# Altium footprint library IP5389_AABC_DEMO_V1.2.PcbLib: 26 footprints (part 1 of 2)
Each footprint in its own frame and in the unit in brackets; x right, y up, seen from the top. Pads: shape width x height; smd on the part's side, far side on the other; paste and mask are expansions set on the pad; w line width, h text height; cw(c..) or ccw(c..) is an arc to the next point about the centre after c.
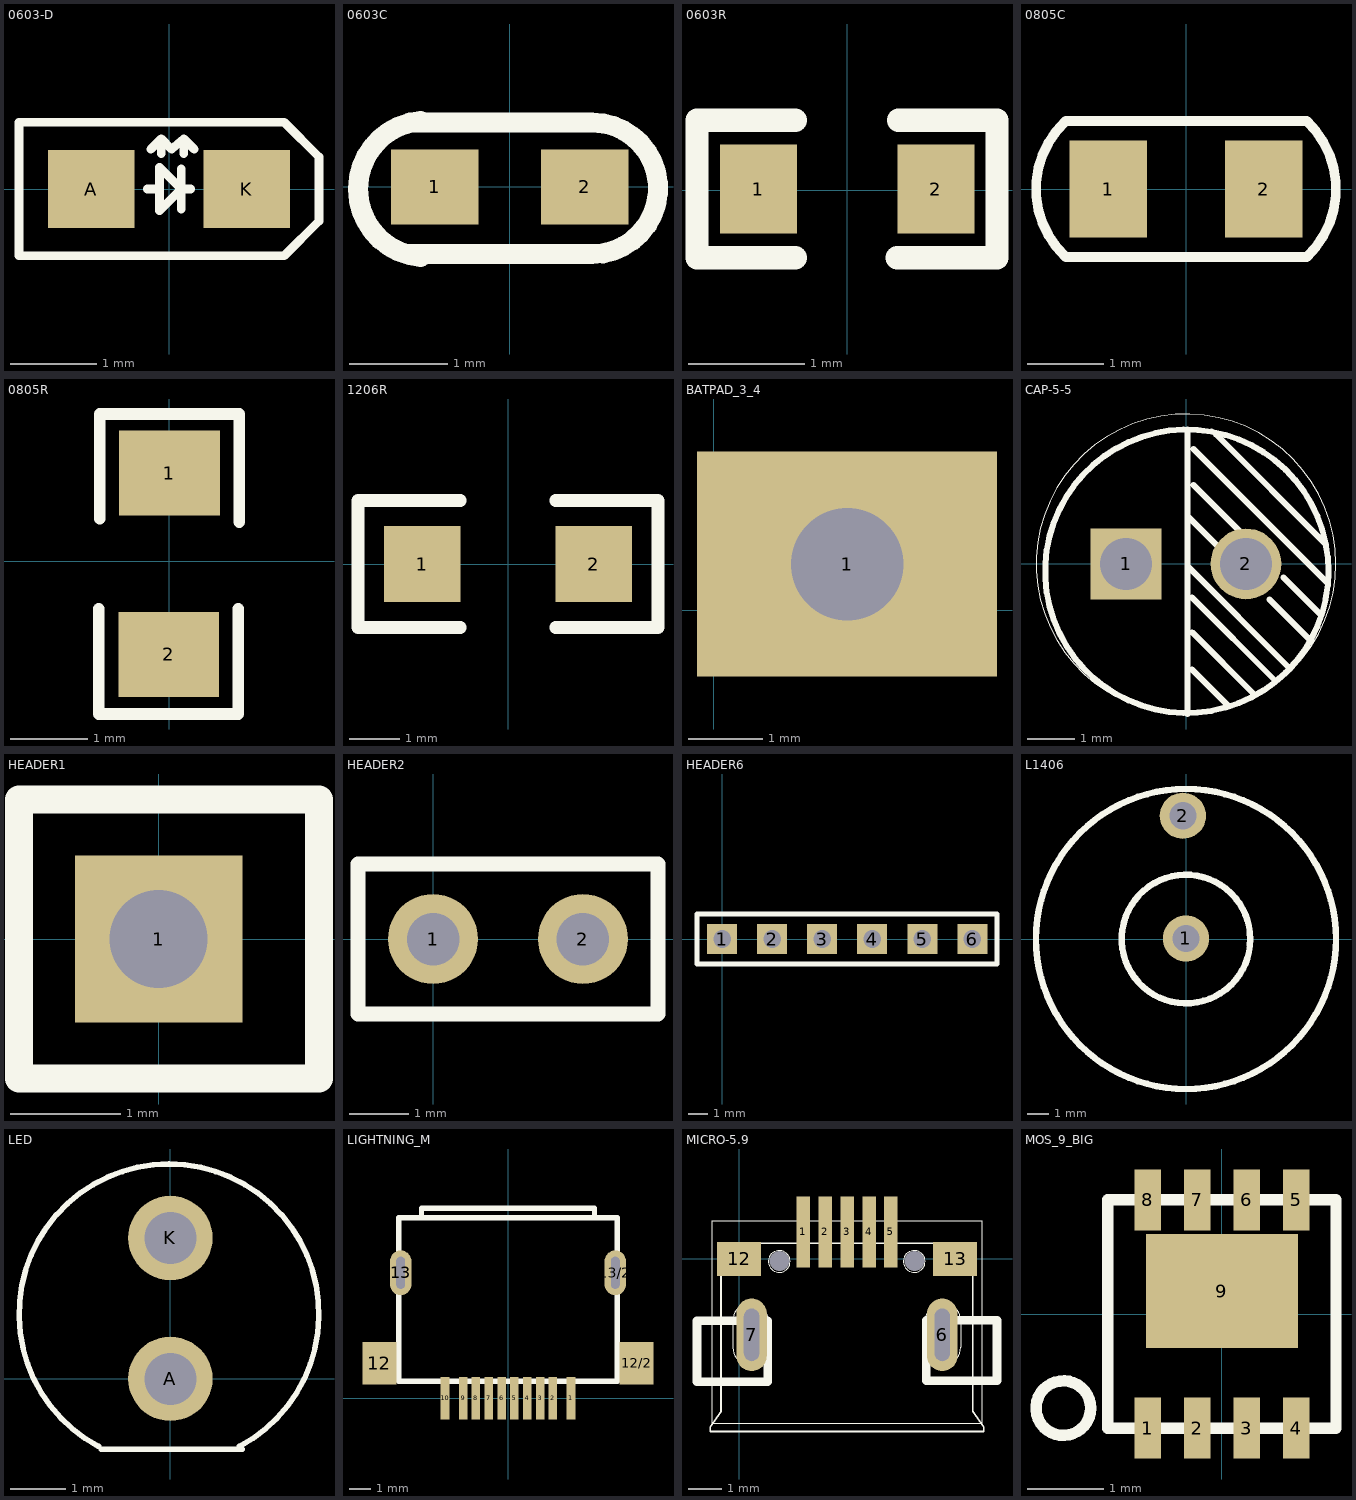
[diagram p0: the footprints below, top view; thin cyan lines are the x and y axes]

## 0603-D [mm]
pads (2):
  rect 1x0.9 smd: A(-0.895,0) K(0.895,0)
Top Overlay:
  lines w0.1: -0.25,0 -0.11,0 ; -0.21,0.46 -0.09,0.58 ; -0.09,0.41 -0.09,0.58 ; 0.14,-0.23 0.14,0 ; 0.14,0.23 0.14,0 ; 0.17,0.41 0.17,0.58 ; 0.25,0 0.14,0 ; 0.29,0.46 0.17,0.58 ; -0.09,0.58 0.03,0.46 0.17,0.58 ; 0.14,0 -0.11,-0.25 -0.11,0.25 0.14,0 ; -1.73,-0.77 1.33,-0.77 1.73,-0.37 1.73,0.37 1.33,0.77 -1.73,0.77 -1.73,-0.77

## 0603C [mil]
pads (2):
  rect 35x30 smd: 1(-30,0) 2(30,0)
Top Overlay:
  lines w8: -39.86,-26.92 32.96,-26.92 ccw(c32.96,-0.57) 32.96,25.78 -39.86,25.78 ; -35.66,26.36 ccw(c-33.38,-0.86) -35.61,-28.08

## 0603R [mil]
pads (2):
  rect 26.06x30 smd: 1(-30,0.39) 2(30,0.39)
Top Overlay:
  lines w7.87: -17.56,-22.8 -50.75,-22.8 -50.75,23.58 -17.56,23.58 ; 16.93,-22.8 50.63,-22.8 50.63,23.58 17.32,23.58

## 0805C [mil]
pads (2):
  rect 40x50 smd: 1(-40,0) 2(40,0)
Top Overlay:
  lines w5: -61.92,-35 cw(c-29.4,0) -61.92,35 62.14,35 cw(c28.81,0) 62.14,-35 -61.92,-35

## 0805R [mm]
pads (2):
  rect 1.3x1.1 smd: 1(0,1.14) 2(-0.01,-1.2)
Top Overlay:
  lines w0.15: -0.91,-0.61 -0.911,-1.968 0.889,-1.968 0.89,-0.61 ; -0.9,0.55 -0.901,1.902 0.899,1.902 0.9,0.51

## 1206R [mil]
pads (2):
  rect 60x60 smd: 1(-67.5,0) 2(67.5,0)
Top Overlay:
  lines w10: -37.5,-50 -118,-50 -118,50 -37.5,50 ; 37.5,-50 118,-50 118,50 37.5,50

## BATPAD_3_4 [mil]
pads (1):
  rect 160x120 hole 60: 1(71,24.79)

## CAP-5-5 [mm]
pads (2):
  rect 1.5x1.5 / inner oval 1.397x1.778 / far side rect 1.5x1.5 hole 1.1: 1(-1.27,0)
  round 1.5 hole 1.1: 2(1.27,0)
Top Overlay:
  circle w0.025: c0,0 r3.175
  circle w0.127: c0.017,-0.155 r3
  lines w0.127: 0.027,-3.178 0.027,2.842 ; 0.04,1.009 0.675,0.374 ; 0.044,-0.061 2.203,-2.22 ; 0.129,-2.238 0.904,-3.013 ; 0.129,-1.451 1.45,-2.771 ; 0.129,-0.714 1.894,-2.479 ; 0.154,1.674 1.158,0.67 ; 0.154,2.436 2.999,-0.409 ; 0.637,2.74 2.961,0.416 ; 1.769,-0.754 2.643,-1.628 ; 2.063,-0.286 2.834,-1.057

## HEADER1 [mil]
pads (1):
  rect 60x60 hole 35: 1(0,0)
Top Overlay:
  lines w10: -50,-50 -50,50 57.48,50 57.48,-50 -50,-50

## HEADER2 [mil]
pads (2):
  round 60 hole 35: 1(0,0) 2(100,0)
Top Overlay:
  lines w10: -50,-50 -50,50 150,50 150,-50 -50,-50

## HEADER6 [mil]
pads (6):
  rect 60x60 hole 35: 1(0,0) 2(100,0) 3(200,0) 4(300,0) 5(400,0) 6(500,0)
Top Overlay:
  lines w10: -50,-50 -50,50 549.21,50 549.21,-50 -50,-50

## L1406 [mil]
pads (2):
  round 85 hole 50: 1(-0.03,0.94) 2(-5.73,226.41)
Top Overlay:
  circle w11.81: c-0.04,-0.11 r118.11
  circle w11.81: c0,0 r275.59

## LED [mil]
pads (2):
  round 60 hole 37: A(0,0) K(0,100)
Top Overlay:
  lines w3.94: -51,-48 cw(c-1,46.04) 49,-48 ; -49,-50 51,-50

## LIGHTNING_M [mm]
pads (14):
  rect 0.4x2 smd: 1(2.95,0) 2(2.1,0) 3(1.5,0) 4(0.9,0) 5(0.3,0) 6(-0.3,0) 7(-0.9,0) 8(-1.5,0) 9(-2.1,0) 10(-2.95,0)
  rect 1.6x2 smd: 12(-6.025,1.65) 12/2(6.025,1.65)
  oval 1x2.1 hole 0.4 slot 1.5 at 90 deg: 13(-5.025,5.88) 13/2(5.025,5.88)
Top Overlay:
  lines w0.254: -5.125,0.8 -5.125,8.455 5.125,8.455 5.125,0.8 -5.125,0.8 ; -4.05,8.455 -4.05,8.9 4.05,8.9 4.05,8.455 -4.05,8.455

## MICRO-5.9 [mm]
pads (11):
  rect 0.4x2.1 smd: 1(1.9,0.8) 2(2.55,0.8) 3(3.2,0.8) 4(3.85,0.8) 5(4.5,0.8)
  oval 0.9x2.15 hole 0.45 slot 1.55 at 90 deg: 6(6.02,-2.25) 7(0.37,-2.25)
  round 0.025 hole 0.6: 10(1.2,-0.06) 11(5.2,-0.06)
  rect 1.3x1 smd: 12(0,0) 13(6.4,0)
Top Overlay:
  circle w0.025: c5.19,-0.075 r0.322
  circle w0.025: c1.19,-0.075 r0.322
  lines w0.025: -0.81,-4.875 -0.81,1.125 ; -0.81,-4.875 7.19,-4.875 ; -0.81,-4.875 7.19,-4.875 ; -0.81,-4.875 -0.81,1.125 ; -0.81,1.125 7.19,1.125 ; -0.81,1.125 7.19,1.125 ; 7.19,1.125 7.19,-4.875 ; -0.185,-2.625 ccw(c0.34,-2.625) 0.865,-2.625 0.865,-1.825 ccw(c0.34,-1.825) -0.185,-1.825 -0.185,-2.625 ; 0.115,-2.625 ccw(c0.34,-2.625) 0.565,-2.625 0.565,-1.825 ccw(c0.34,-1.825) 0.115,-1.825 0.115,-2.625 ; 5.515,-2.625 ccw(c6.04,-2.625) 6.565,-2.625 6.565,-1.825 ccw(c6.04,-1.825) 5.515,-1.825 5.515,-2.625 ; 5.815,-2.625 ccw(c6.04,-2.625) 6.265,-2.625 6.265,-1.825 ccw(c6.04,-1.825) 5.815,-1.825 5.815,-2.625
  lines w0.051: -0.854,-5.115 -0.854,-4.981 -0.534,-4.514 -0.534,0.463 6.926,0.463 6.926,-4.512 7.246,-4.98 7.246,-5.115 -0.854,-5.115
  lines w0.254: -1.247,-3.634 -1.247,-1.836 0.855,-1.836 0.855,-3.634 -1.247,-3.634 ; 5.541,-3.612 5.541,-1.815 7.641,-1.815 7.641,-3.612 5.541,-3.612

## MOS_9_BIG [mm]
pads (9):
  rect 0.35x0.8 smd: 1(-0.975,-1.5) 2(-0.325,-1.5) 3(0.325,-1.5) 4(0.975,-1.5) 5(0.975,1.5) 6(0.325,1.5) 7(-0.325,1.5) 8(-0.975,1.5)
  rect 2x1.5 smd: 9(0,0.3)
Top Overlay:
  circle w0.15: c-2.086,-1.238 r0.359
  lines w0.15: -1.5,-1.5 1.5,-1.5 1.5,1.5 -1.5,1.5 -1.5,-1.5